# Altium footprint library FP-7BB-20-6L0-MFG.PcbLib: 1 footprints
Each footprint in its own frame and in the unit in brackets; x right, y up, seen from the top. Pads: shape width x height; smd on the part's side, far side on the other; paste and mask are expansions set on the pad; w line width, h text height; cw(c..) or ccw(c..) is an arc to the next point about the centre after c.
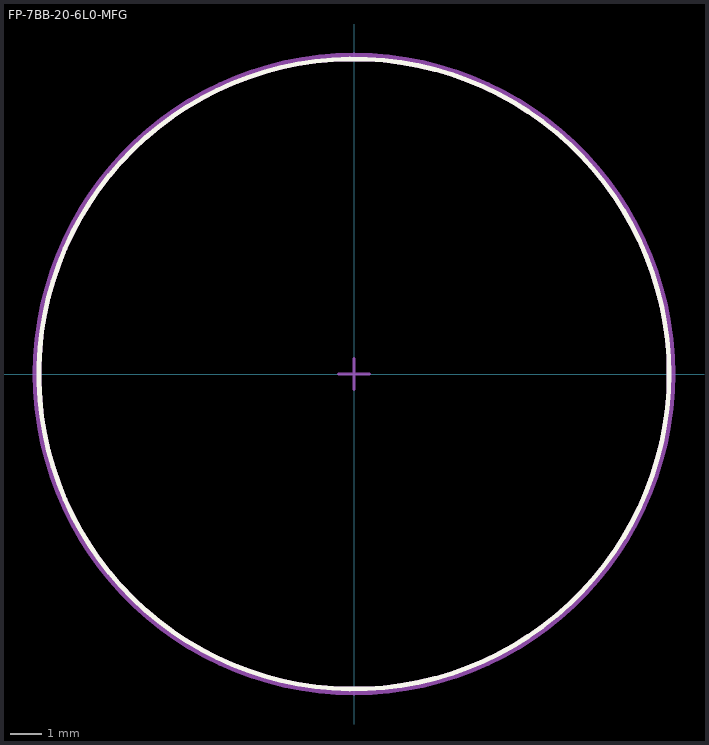
[diagram p0: the footprint, top view; thin cyan lines are the x and y axes]

## FP-7BB-20-6L0-MFG [mm]
Top Overlay:
  circle w0.15: c0,0 r10.1
Mechanical 5:
  text ".Designator" at 0,0.188 h1
Mechanical 13:
  circle w0.15: c0,0 r10.1
Mechanical 15:
  lines w0.2: -10.2,0 cw(c0,0) 10.2,0 cw(c0,0) -10.2,0 ; -10.2,0 -10.2,0
Mechanical 16:
  lines w0.1: -0.5,0 0.5,0 ; 0,-0.5 0,0.5
3D body "Speak_Murata_7BB-20-6L0_eec.STEP": height 0.25, standoff 0, extent -10.2,-10.2 10.2,10.2